# Altium schematic symbol library Serial_number.SchLib: 1 symbol
Pins are listed as number, name and electrical type; pins without a type are passive.

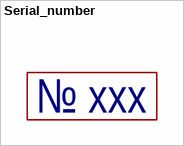
[diagram p0: symbol Serial_number]

## Serial_number
designator SN  (value not drawn)  (no BOM)
The place for applying the serial number; Назначение: Место под нанесение серийного номера; Потребление, Вт: 0; Наименование: Место под нанесение серийного номера
footprint Serial_number_v4
footprint Serial_number_v3
footprint Serial_number_v2
footprint Serial_number_v1
text: № xxx